# EAGLE library part 2BITADDR_PLUS (library SKAARHOJ)
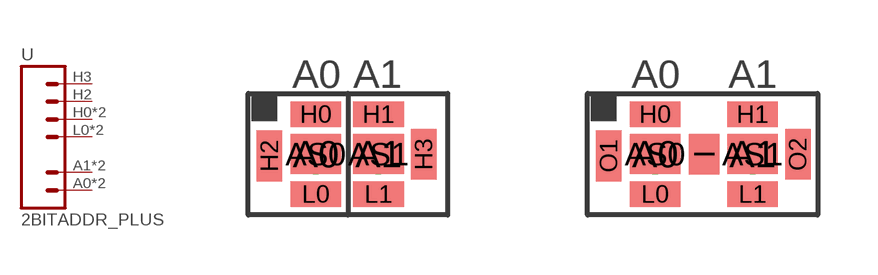
[diagram p68: symbol with the pads of 2BITADDR_SMALL_PLUS; footprints 2BITADDR_SMALL_PLUS, 2BITADDR_SMALL_PLUS2]

Designator prefix -

## 2BITADDR_PLUS  [2BITADDR_SMALL_PLUS]
A0  A1  pas
A1  A2  pas
AS0  A1  pas
AS1  A2  pas
H0  VCC  pas
H1  VCC  pas
H2  3  pas
H3  4  pas
L0  GND  pas
L1  GND  pas

## 2BITADDR_PLUSPLUS2  [2BITADDR_SMALL_PLUS2]
A0  A1  pas
A1  A2  pas
AS0  A1  pas
AS1  A2  pas
H0  VCC  pas
H1  VCC  pas
I  4  pas
L0  GND  pas
L1  GND  pas
O1  3  pas
O2  3  pas

## Footprint 2BITADDR_SMALL_PLUS (pad centres in mm)
drill 0.5: A0 -1.565,0; A1 0,0
smd 1.27 x 1: AS0 -1.565,0; AS1 0,0
smd 1.27 x 0.635: H0 -1.565,1; H1 0,1; L0 -1.565,-1; L1 0,-1
smd 0.635 x 1.27: H2 -2.727,-0.041; H3 1.134,0

## Footprint 2BITADDR_SMALL_PLUS2 (pad centres in mm)
drill 0.5: A0 -1.565,0; A1 0.87,0
smd 1.27 x 1: AS0 -1.565,0; AS1 0.87,0
smd 1.27 x 0.635: H0 -1.565,1; H1 0.87,1; L0 -1.565,-1; L1 0.87,-1
smd 0.762 x 1.016: I -0.336,0
smd 0.635 x 1.27: O1 -2.727,-0.041; O2 2.004,0